# Altium schematic symbol library ADS8588SIPM.SchLib: 1 symbol
Pins are listed as number, name and electrical type; pins without a type are passive.

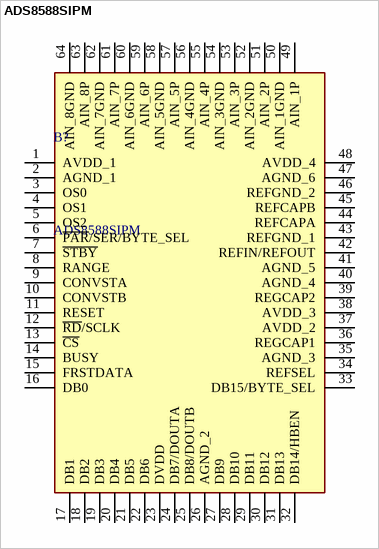
[diagram p0: symbol ADS8588SIPM]

## ADS8588SIPM
designator B?
Analog to Digital Converters - ADC 16-Bit High-Speed 8-Channel Simultaneous-Sampling ADC With Bipolar Inputs on a Single Supply 64-LQFP -40 to 125; Manufacturer_Name: Texas Instruments; Geometry.Height: 1.6mm; Mouser Part Number: 595-ADS8588SIPM; Mouser Price/Stock: https://www.mouser.co.uk/ProductDetail/Texas-Instruments/ADS8588SIPM?qs=34RfhUjJmKeOcrHblOaiNQ%3D%3D; Manufacturer_Part_Number: ADS8588SIPM; Datasheet Link: http://www.ti.com/lit/ds/symlink/ads8588s.pdf
footprint QFP50P1200X1200X160-64N
pins: 1 AVDD_1, 2 AGND_1, 3 OS0, 4 OS1, 5 OS2, 6 ~{PAR}/SER/BYTE_SEL, 7 ~{STBY}, 8 RANGE, 9 CONVSTA, 10 CONVSTB, 11 RESET, 12 ~{RD}/SCLK, 13 ~{CS}, 14 BUSY, 15 FRSTDATA, 16 DB0, 17 DB1, 18 DB2, 19 DB3, 20 DB4, 21 DB5, 22 DB6, 23 DVDD, 24 DB7/DOUTA, 25 DB8/DOUTB, 26 AGND_2, 27 DB9, 28 DB10, 29 DB11, 30 DB12, 31 DB13, 32 DB14/HBEN, 33 DB15/BYTE_SEL, 34 REFSEL, 35 AGND_3, 36 REGCAP1, 37 AVDD_2, 38 AVDD_3, 39 REGCAP2, 40 AGND_4, 41 AGND_5, 42 REFIN/REFOUT, 43 REFGND_1, 44 REFCAPA, 45 REFCAPB, 46 REFGND_2, 47 AGND_6, 48 AVDD_4, 49 AIN_1P, 50 AIN_1GND, 51 AIN_2P, 52 AIN_2GND, 53 AIN_3P, 54 AIN_3GND, 55 AIN_4P, 56 AIN_4GND, 57 AIN_5P, 58 AIN_5GND, 59 AIN_6P, 60 AIN_6GND, 61 AIN_7P, 62 AIN_7GND, 63 AIN_8P, 64 AIN_8GND